# EAGLE library part PEC12R-4XXXF-SXXXX (library FlashPCB_Misc)
PEC12R - 12 mm Incremental Encoder Technical Specifications: Output: 2-bit quadrature code Switch Type: Contact Push ON Momentary SPST Component Search: PEC12R-4225F-S0024 <https://www.flashpcb.com/components> Datasheet: PEC12R - 12 mm Incremental Encoder <https://www.bourns.com/docs/Product-Datasheets/PEC12R.pdf>
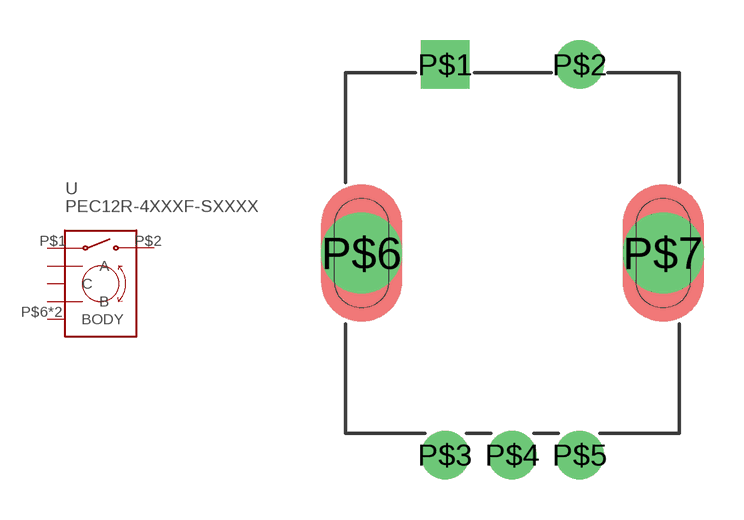
[diagram p0: symbol with the pads of PEC12R-4XXXF-SXXXX; footprint PEC12R-4XXXF-SXXXX]

Designator prefix U

## PEC12R-4XXXF-SXXXX  [PEC12R-4XXXF-SXXXX]
P$1  P$1
P$2  P$2
P$3  A  in
P$4  C  out
P$5  B  in
P$6  BODY
P$7  BODY

## Footprint PEC12R-4XXXF-SXXXX (pad centres in mm)
drill 1.2 square: P$1 -2.5,7
drill 1.2: P$2 2.5,7; P$3 -2.5,-7.5; P$4 0,-7.5; P$5 2.5,-7.5
drill 2: P$6 -5.6,0; P$7 5.6,0